# Altium footprint library MULTITESTCARD V1I1.PcbLib: 31 footprints (part 1 of 2)
Each footprint in its own frame and in the unit in brackets; x right, y up, seen from the top. Pads: shape width x height; smd on the part's side, far side on the other; paste and mask are expansions set on the pad; w line width, h text height; cw(c..) or ccw(c..) is an arc to the next point about the centre after c.
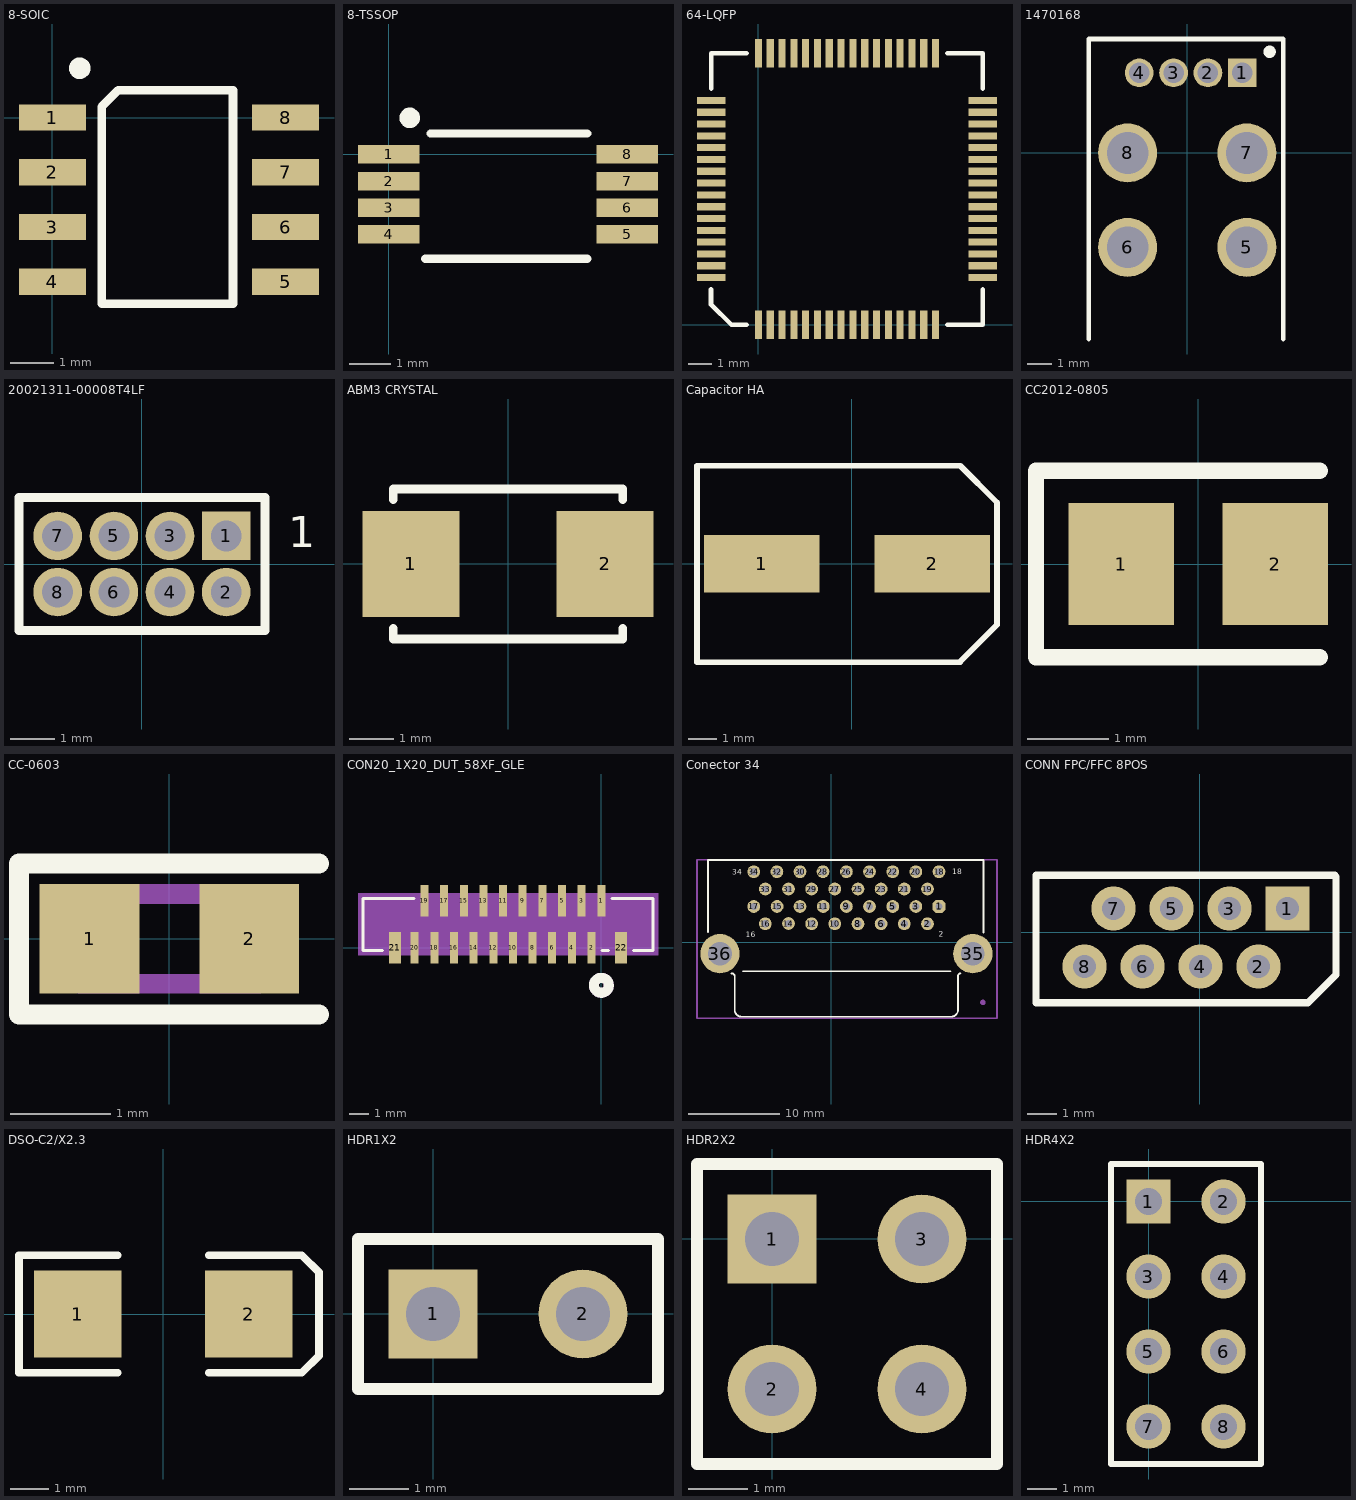
[diagram p0: the footprints below, top view; thin cyan lines are the x and y axes]

## 8-SOIC [mil] "LM2904DR"
pads (8):
  rect 61x24 smd mask+1.97: 1(0,0) 2(0,-50) 3(0,-100) 4(0,-150) 5(213,-150) 6(213,-100) 7(213,-50) 8(213,0)
Top Overlay:
  circle w9.84: c25,45 r4.92
  lines w7.87: 45,-170 165,-170 165,25 60,25 45,10 45,-45 45,-170
3D body "LM2904DR.stp": height 66.09, standoff -3, extent -17,-173.49 227.01,23.51

## 8-TSSOP [mm] "INA240A1PWR"
pads (8):
  rect 1.5x0.45 smd mask+0.05: 1(0,0) 2(0,-0.65) 3(0,-1.3) 4(0,-1.95) 5(5.8,-1.95) 6(5.8,-1.3) 7(5.8,-0.65) 8(5.8,0)
Top Overlay:
  circle w0.25: c0.508,0.889 r0.125
  lines w0.2: 0.889,-2.54 4.826,-2.54 ; 1.016,0.508 4.826,0.508
3D body: height 0.25, standoff 0, extent -0.572,0.889 -0.572,0.889
3D body "INA240A1PWR.stp": height 1.12, standoff -0.07, extent -0.378,-2.515 6.22,0.483

## 64-LQFP [mm] "64-LQFP"
pads (64):
  rect 0.3x1.2 smd mask+0.05: 1(0,0) 2(0.5,0) 3(1,0) 4(1.5,0) 5(2,0) 6(2.5,0) 7(3,0) 8(3.5,0) 9(4,0) 10(4.5,0) 11(5,0) 12(5.5,0) 13(6,0) 14(6.5,0) 15(7,0) 16(7.5,0) 33(7.5,11.5) 34(7,11.5) 35(6.5,11.5) 36(6,11.5) 37(5.5,11.5) 38(5,11.5) 39(4.5,11.5) 40(4,11.5) 41(3.5,11.5) 42(3,11.5) 43(2.5,11.5) 44(2,11.5) 45(1.5,11.5) 46(1,11.5) 47(0.5,11.5) 48(0,11.5)
  rect 1.2x0.3 smd mask+0.05: 17(9.5,2) 18(9.5,2.5) 19(9.5,3) 20(9.5,3.5) 21(9.5,4) 22(9.5,4.5) 23(9.5,5) 24(9.5,5.5) 25(9.5,6) 26(9.5,6.5) 27(9.5,7) 28(9.5,7.5) 29(9.5,8) 30(9.5,8.5) 31(9.5,9) 32(9.5,9.5) 49(-2,9.5) 50(-2,9) 51(-2,8.5) 52(-2,8) 53(-2,7.5) 54(-2,7) 55(-2,6.5) 56(-2,6) 57(-2,5.5) 58(-2,5) 59(-2,4.5) 60(-2,4) 61(-2,3.5) 62(-2,3) 63(-2,2.5) 64(-2,2)
Top Overlay:
  lines w0.2: -2.007,1.5 -2.006,0.86 -1.14,-0.002 -0.5,-0.001 ; -2,10 -2,11.5 -0.5,11.5 ; 8,0 9.5,0 9.5,1.5 ; 8,11.5 9.5,11.5 9.5,10
3D body "STM32F205RCT6.stp": height 1.55, standoff -0.06, extent -2.286,-0.282 9.708,11.712

## 1470168 [mm] "Connector; USB, Type A, Thru-Hole; 4x4 Position; Right Angle"
height 16.8
pads (8):
  rect 1.17x1.17 hole 0.838 mask+0.08: 1(2.244,3.262)
  round 1.17 hole 0.838 mask+0.08: 2(0.844,3.262) 3(-0.556,3.262) 4(-1.956,3.262)
  round 2.4 hole 1.7 mask+0.08: 5(2.428,-3.841) 6(-2.424,-3.842) 7(2.426,0.002) 8(-2.424,0)
Top Overlay:
  circle w0.25: c3.354,4.118 r0.125
  lines w0.2: -4.009,-7.574 -4.009,4.638 3.91,4.638 ; 3.91,-7.574 3.91,4.62
3D body "673298000.stp": height 14.49, standoff -3.38, extent -3.525,-9.305 3.475,4.375

## 20021311-00008T4LF [mm] "CONN RECEPT 8POS DUAL VERT T/H"
height 4.4
pads (8):
  rect 1.1x1.1 hole 0.7: 1(1.905,0.635)
  round 1.1 hole 0.7: 2(1.905,-0.635) 3(0.635,0.635) 4(0.635,-0.635) 5(-0.635,0.635) 6(-0.635,-0.635) 7(-1.905,0.635) 8(-1.905,-0.635)
Top Overlay:
  lines w0.2: -2.78,-1.5 -2.78,1.5 -2.7,1.5 2.7,1.5 2.78,1.5 2.78,-1.5 2.7,-1.5 -2.7,-1.5 -2.78,-1.5
  text "1" at 3.302,0.381 h0.7
3D body "20021311-0008XXLFc.stp": height 4.3, standoff -2.4, extent -2.77,-1.5 2.77,1.5

## ABM3 CRYSTAL [mm] "CRYSTAL 25MHZ 18PF SMD (535-10645-1-ND)"
height 1.3
pads (2):
  rect 2.2x2.4 smd: 1(-2.2,0) 2(2.2,0)
Top Overlay:
  lines w0.2: -2.6,-1.46 -2.6,-1.7 2.6,-1.7 2.6,-1.46 ; -2.6,1.46 -2.6,1.7 2.6,1.7 2.6,1.46
3D body "User Library-ABM3B.STEP": height 1.1, standoff 0, extent -2.525,-1.625 2.475,1.575

## Capacitor HA [mm]
pads (2):
  rect 4x2 smd: 1(-3.125,0) 2(2.8,0)
Top Overlay:
  lines w0.2: -5.375,-3.429 3.775,-3.429 ; -5.375,-3.4 -5.375,3.375 ; -5.375,3.404 3.775,3.404 ; 3.75,-3.425 5.05,-2.125 5.05,2.125 3.775,3.4
3D body "SW3dPS-E-cap_H.STEP": height 7.7, standoff 0, extent -3.8,-3.3 3.5,3.3

## CC2012-0805 [mm]
height 1.73
pads (2):
  rect 1.3x1.5 smd: 1(-0.95,0) 2(0.95,0)
Top Overlay:
  lines w0.2: 1.5,-1.15 -2,-1.15 -2,1.15 1.5,1.15
3D body "SW3dPS-cap3216h160.STEP": height 1.6, standoff 0, extent -1.6,-0.825 1.6,0.775

## CC-0603 [mm] "CAP CER NPO 0603"
height 1
pads (2):
  rect 1x1.1 smd: 1(-0.8,0) 2(0.8,0)
Top Overlay:
  lines w0.2: 1.5,-0.757 -1.508,-0.757 -1.508,0.755 1.5,0.755
Mechanical 13:
  lines w0.2: -0.9,-0.45 0.9,-0.45 0.9,0.45 -0.9,0.45 -0.9,-0.45
3D body "User Library-SMD CAPACITOR0603.STEP": height 0.78, standoff -0.02, extent -0.8,-0.4 0.8,0.4

## CON20_1X20_DUT_58XF_GLE [mil]
pads (22):
  rect 16x63 smd: 1(0,94) 2(-19.69,0) 3(-39.37,94) 4(-59.06,0) 5(-78.74,94) 6(-98.43,0) 7(-118.11,94) 8(-137.8,0) 9(-157.48,94) 10(-177.17,0) 11(-196.85,94) 12(-216.54,0) 13(-236.22,94) 14(-255.91,0) 15(-275.59,94) 16(-295.28,0) 17(-314.96,94) 18(-334.65,0) 19(-354.33,94) 20(-374.02,0)
  rect 24x63 smd: 21(-413.51,0) 22(39.49,0)
Top Overlay:
  circle w20: c0,-75 r15
  lines w6: -438.61,-5 -477.51,-5 -477.51,99 -375.43,99 ; 1.41,-5 14.39,-5 ; 21.1,99 103.49,99 103.49,-5 64.59,-5
Bottom Overlay:
  circle w20: c0,-75 r15
Mechanical 5:
  region: -487.51,109 113.49,109 113.49,-15 -487.51,-15
Mechanical 13:
  circle w20: c0,-75 r15
  lines w1: -472.51,0 98.49,0 98.49,94 -472.51,94 -472.51,0
3D body: height 10, standoff 0, extent 0,0 10,10

## Conector 34 [mm]
pads (36):
  oct 1.4x1.4 hole 0.8: 1(11.842,3.941)
  round 1.4 hole 0.8: 2(10.572,2.036) 3(9.302,3.941) 4(8.032,2.036) 5(6.762,3.941) 6(5.492,2.036) 7(4.222,3.941) 8(2.952,2.036) 9(1.682,3.941) 10(0.412,2.036) 11(-0.858,3.941) 12(-2.128,2.036) 13(-3.398,3.941) 14(-4.668,2.063) 15(-5.913,3.943) 16(-7.208,2.036) 17(-8.478,3.941) 18(11.842,7.751) 19(10.572,5.846) 20(9.302,7.751) 21(8.032,5.846) 22(6.762,7.751) 23(5.492,5.846) 24(4.222,7.751) 25(2.952,5.846) 26(1.682,7.751) 27(0.412,5.846) 28(-0.883,7.753) 29(-2.128,5.846) 30(-3.398,7.751) 31(-4.668,5.846) 32(-5.938,7.751) 33(-7.208,5.846) 34(-8.478,7.751)
  round 4.3 hole 2.6: 35(15.55,-1.239) 36(-12.178,-1.239)
Top Overlay:
  lines w0.2: -13.51,1.127 -13.51,9.027 16.735,9.027 16.735,1.094 ; -10.906,-3.408 cw(c-10.877,-3.724) -10.56,-3.71 ; -10.563,-3.7 -10.563,-7.397 ccw(c-9.804,-7.397) -9.804,-8.156 ; -9.808,-8.163 13.242,-8.163 ; -9.69,-3.167 13.125,-3.167 ; 13.167,-8.153 ccw(c13.167,-7.394) 13.926,-7.394 ; 13.921,-3.729 cw(c14.237,-3.7) 14.223,-3.383 ; 13.927,-7.4 13.927,-3.7
  text "2" at 11.8,0.6 h0.6
  text "18" at 13.3,7.48 h0.6
  text "34" at -10.82,7.42 h0.6
  text "16" at -9.33,0.58 h0.6
Mechanical 31:
  circle w0.3: c16.65,-6.58 r0.15
  lines w0.2: -14.7,-8.33 -14.7,9.07 18.2,9.07 18.2,-8.33 -14.7,-8.33
  text ".Designator" at -1.91,-0.42 h1.02
3D body "conector_34pines.stp": height 7.45, standoff -3.25, extent -12.74,-8.68 16.16,8.62
3D body: height 0.25, standoff 0, extent -10.3,1.2 -10.3,1.2

## CONN FPC/FFC 8POS [mm] "CONN FPC/FFC 8POS 1MM VERT PCB"
height 5.2
pads (8):
  rect 1.524x1.524 hole 0.8: 1(3.025,0.825)
  round 1.524 hole 0.8: 2(2.025,-1.175) 3(1.025,0.825) 4(0.025,-1.175) 5(-0.975,0.825) 6(-1.975,-1.175) 7(-2.975,0.825) 8(-3.975,-1.175)
Top Overlay:
  lines w0.254: -5.648,1.95 -5.648,-2.425 3.73,-2.425 4.698,-1.457 4.698,1.933 4.655,1.975 -5.648,1.975
3D body "HLW8S-2C7LF.stp": height 5.95, standoff -2.95, extent -5.75,-2.1 4.85,1.8

## DSO-C2/X2.3 [mm] "DO-214-AA/SMB; 2 C-Bend Leads; Body 5.3 x 3.6 mm, inc. leads (LxW)"
pads (2):
  rect 2.3x2.3 smd: 1(-2.25,0) 2(2.25,0)
Top Overlay:
  lines w0.2: -1.2,-1.55 -3.8,-1.55 -3.8,1.55 -1.2,1.55 ; 1.2,-1.55 3.65,-1.55 4.1,-1.1 4.1,1.1 3.65,1.55 1.2,1.55
3D body "SW3dPS-DO-214AA SMB.STEP": height 2.32, standoff 0.02, extent -2.573,-1.8 2.827,1.8

## HDR1X2 [mm] "Connector; Header; 2 Position"
pads (2):
  rect 1.5x1.5 hole 0.914: 1(0,0)
  round 1.5 hole 0.914: 2(2.54,0)
Top Overlay:
  lines w0.2: -1.27,-1.27 3.81,-1.27 3.81,1.27 -1.27,1.27 -1.27,-1.27
3D body "022284360_02.stp": height 8.38, standoff -3.17, extent -1.27,-1.245 3.81,1.245

## HDR2X2 [mm] "Connector; Header; 2 Position"
pads (4):
  rect 1.5x1.5 hole 0.914: 1(0,0)
  round 1.5 hole 0.914: 2(0,-2.54) 3(2.54,0) 4(2.54,-2.54)
Top Overlay:
  lines w0.2: -1.27,-3.81 3.81,-3.81 3.81,1.27 -1.27,1.27 -1.27,-3.81
3D body "022284360_02.stp": height 8.38, standoff -3.17, extent -1.265,-1.244 3.815,1.245
3D body "022284360_02.stp": height 8.38, standoff -3.17, extent -1.265,-3.784 3.815,-1.295

## HDR4X2 [mm] "Connector; Header; 8 Position"
pads (8):
  rect 1.5x1.5 hole 0.914: 1(0,0)
  round 1.5 hole 0.914: 2(2.54,0) 3(0,-2.54) 4(2.54,-2.54) 5(0,-5.08) 6(2.54,-5.08) 7(0,-7.62) 8(2.54,-7.62)
Top Overlay:
  lines w0.2: -1.27,-8.89 3.81,-8.89 3.81,1.27 -1.27,1.27 -1.27,-8.89
3D body "022284360_02.stp": height 8.38, standoff -3.17, extent -1.265,-8.864 3.815,-6.375
3D body "022284360_02.stp": height 8.38, standoff -3.17, extent -1.265,-6.324 3.815,-3.835
3D body "022284360_02.stp": height 8.38, standoff -3.17, extent -1.265,-1.244 3.815,1.245
3D body "022284360_02.stp": height 8.38, standoff -3.17, extent -1.265,-3.784 3.815,-1.295